# Altium schematic symbol library 691 313 510 0xx.SchLib: 23 symbols
Pins are listed as number, name and electrical type; pins without a type are passive.

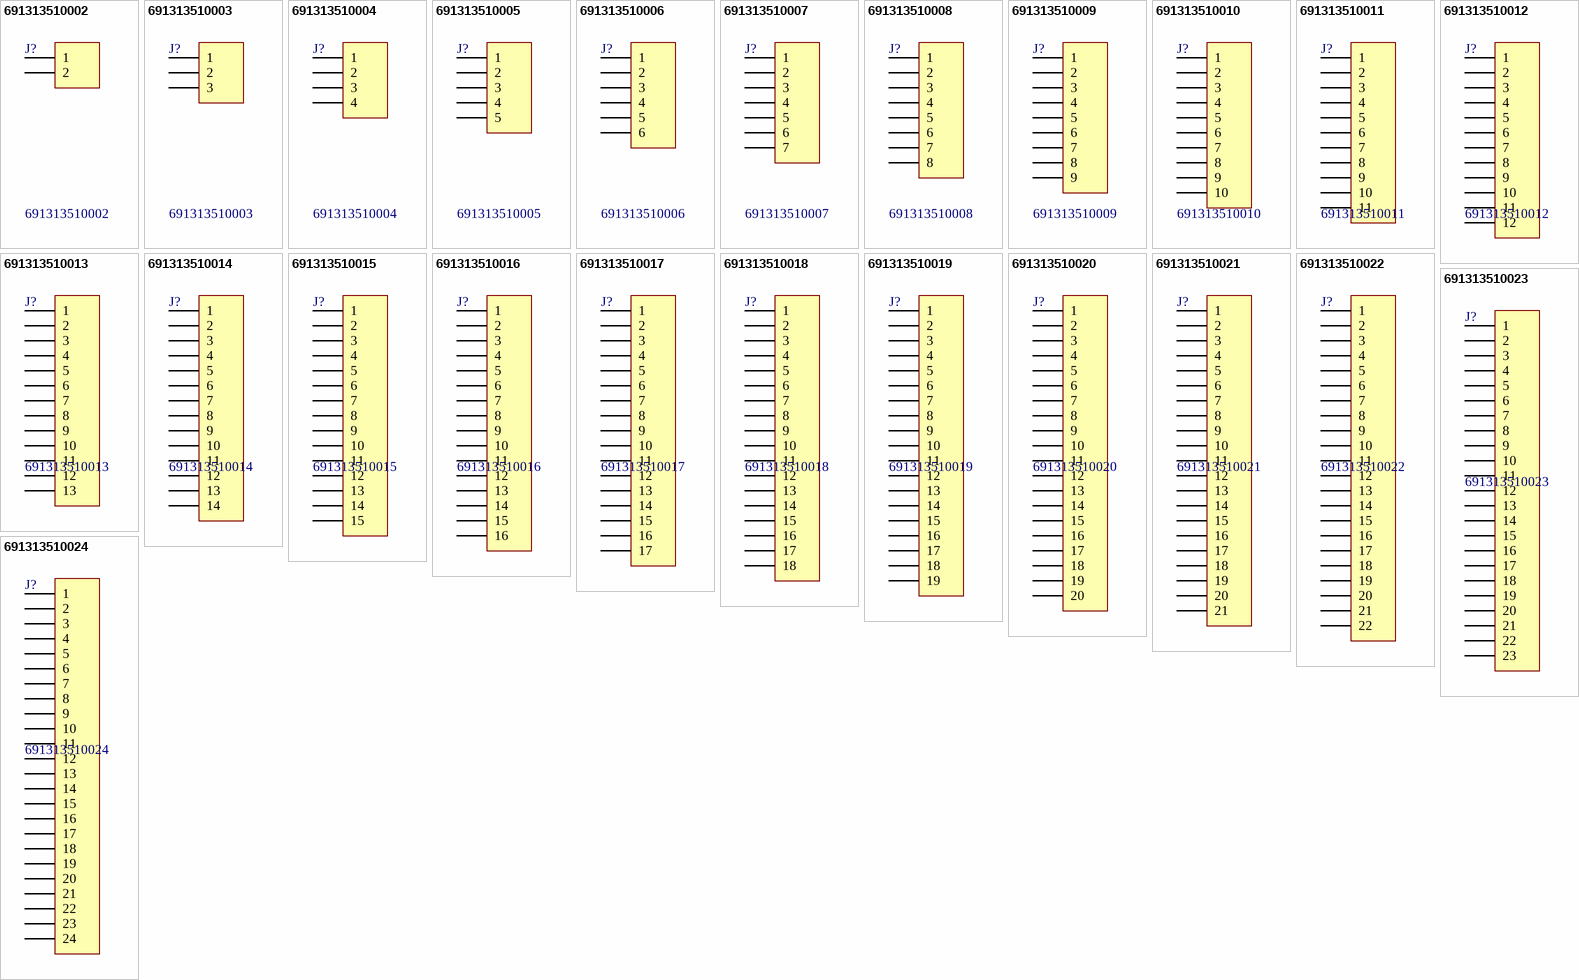
[diagram p0: symbols 691313510002 to 691313510024]

## 691313510002
designator J?
WR-TBL Terminal Blocks Serie 313 – 5.08 mm; Manufacturer: Würth Elektronik eiSos GmbH; ComponentLink1 Description: Manufacturer; ComponentLink2 Description: Datasheet; NoPins: 02; Created Date: 31 March 2014; partNo: 691313510002; ComponentLink1URL: http://www.we-online.com; ComponentLink2URL: http://katalog.we-online.de/em/datasheet/6913135100xx.pdf; Created by: Karrer Zheng; Value: 691313510002
footprint 691313510002 (5,08mm - PCB Headers - Horizontal - Closed ends - 02p)
pins: 1, 2

## 691313510003
designator J?
WR-TBL Terminal Blocks Serie 313 – 5.08 mm; Manufacturer: Würth Elektronik eiSos GmbH; ComponentLink1 Description: Manufacturer; ComponentLink2 Description: Datasheet; NoPins: 03; Created Date: 31 March 2014; partNo: 691313510003; ComponentLink1URL: http://www.we-online.com; ComponentLink2URL: http://katalog.we-online.de/em/datasheet/6913135100xx.pdf; Created by: Karrer Zheng; Value: 691313510003
footprint 691313510003 (5,08mm - PCB Headers - Horizontal - Closed ends - 03p)
pins: 1, 2, 3

## 691313510004
designator J?
WR-TBL Terminal Blocks Serie 313 – 5.08 mm; Manufacturer: Würth Elektronik eiSos GmbH; ComponentLink1 Description: Manufacturer; ComponentLink2 Description: Datasheet; NoPins: 04; Created Date: 31 March 2014; partNo: 691313510004; ComponentLink1URL: http://www.we-online.com; ComponentLink2URL: http://katalog.we-online.de/em/datasheet/6913135100xx.pdf; Created by: Karrer Zheng; Value: 691313510004
footprint 691313510004 (5,08mm - PCB Headers - Horizontal - Closed ends - 04p)
pins: 1, 2, 3, 4

## 691313510005
designator J?
WR-TBL Terminal Blocks Serie 313 – 5.08 mm; Manufacturer: Würth Elektronik eiSos GmbH; ComponentLink1 Description: Manufacturer; ComponentLink2 Description: Datasheet; NoPins: 05; Created Date: 31 March 2014; partNo: 691313510005; ComponentLink1URL: http://www.we-online.com; ComponentLink2URL: http://katalog.we-online.de/em/datasheet/6913135100xx.pdf; Created by: Karrer Zheng; Value: 691313510005
footprint 691313510005 (5,08mm - PCB Headers - Horizontal - Closed ends - 05p)
pins: 1, 2, 3, 4, 5

## 691313510006
designator J?
WR-TBL Terminal Blocks Serie 313 – 5.08 mm; Manufacturer: Würth Elektronik eiSos GmbH; ComponentLink1 Description: Manufacturer; ComponentLink2 Description: Datasheet; NoPins: 06; Created Date: 31 March 2014; partNo: 691313510006; ComponentLink1URL: http://www.we-online.com; ComponentLink2URL: http://katalog.we-online.de/em/datasheet/6913135100xx.pdf; Created by: Karrer Zheng; Value: 691313510006
footprint 691313510006 (5,08mm - PCB Headers - Horizontal - Closed ends - 06p)
pins: 1, 2, 3, 4, 5, 6

## 691313510007
designator J?
WR-TBL Terminal Blocks Serie 313 – 5.08 mm; Manufacturer: Würth Elektronik eiSos GmbH; ComponentLink1 Description: Manufacturer; ComponentLink2 Description: Datasheet; NoPins: 07; Created Date: 31 March 2014; partNo: 691313510007; ComponentLink1URL: http://www.we-online.com; ComponentLink2URL: http://katalog.we-online.de/em/datasheet/6913135100xx.pdf; Created by: Karrer Zheng; Value: 691313510007
footprint 691313510007 (5,08mm - PCB Headers - Horizontal - Closed ends - 07p)
pins: 1, 2, 3, 4, 5, 6, 7

## 691313510008
designator J?
WR-TBL Terminal Blocks Serie 313 – 5.08 mm; Manufacturer: Würth Elektronik eiSos GmbH; ComponentLink1 Description: Manufacturer; ComponentLink2 Description: Datasheet; NoPins: 08; Created Date: 31 March 2014; partNo: 691313510008; ComponentLink1URL: http://www.we-online.com; ComponentLink2URL: http://katalog.we-online.de/em/datasheet/6913135100xx.pdf; Created by: Karrer Zheng; Value: 691313510008
footprint 691313510008 (5,08mm - PCB Headers - Horizontal - Closed ends - 08p)
pins: 1, 2, 3, 4, 5, 6, 7, 8

## 691313510009
designator J?
WR-TBL Terminal Blocks Serie 313 – 5.08 mm; Manufacturer: Würth Elektronik eiSos GmbH; ComponentLink1 Description: Manufacturer; ComponentLink2 Description: Datasheet; NoPins: 09; Created Date: 31 March 2014; partNo: 691313510009; ComponentLink1URL: http://www.we-online.com; ComponentLink2URL: http://katalog.we-online.de/em/datasheet/6913135100xx.pdf; Created by: Karrer Zheng; Value: 691313510009
footprint 691313510009 (5,08mm - PCB Headers - Horizontal - Closed ends - 09p)
pins: 1, 2, 3, 4, 5, 6, 7, 8, 9

## 691313510010
designator J?
WR-TBL Terminal Blocks Serie 313 – 5.08 mm; Manufacturer: Würth Elektronik eiSos GmbH; ComponentLink1 Description: Manufacturer; ComponentLink2 Description: Datasheet; NoPins: 10; Created Date: 31 March 2014; partNo: 691313510010; ComponentLink1URL: http://www.we-online.com; ComponentLink2URL: http://katalog.we-online.de/em/datasheet/6913135100xx.pdf; Created by: Karrer Zheng; Value: 691313510010
footprint 691313510010 (5,08mm - PCB Headers - Horizontal - Closed ends - 10p)
pins: 1, 2, 3, 4, 5, 6, 7, 8, 9, 10

## 691313510011
designator J?
WR-TBL Terminal Blocks Serie 313 – 5.08 mm; Manufacturer: Würth Elektronik eiSos GmbH; ComponentLink1 Description: Manufacturer; ComponentLink2 Description: Datasheet; NoPins: 11; Created Date: 31 March 2014; partNo: 691313510011; ComponentLink1URL: http://www.we-online.com; ComponentLink2URL: http://katalog.we-online.de/em/datasheet/6913135100xx.pdf; Created by: Karrer Zheng; Value: 691313510011
footprint 691313510011 (5,08mm - PCB Headers - Horizontal - Closed ends - 11p)
pins: 1, 2, 3, 4, 5, 6, 7, 8, 9, 10, 11

## 691313510012
designator J?
WR-TBL Terminal Blocks Serie 313 – 5.08 mm; Manufacturer: Würth Elektronik eiSos GmbH; ComponentLink1 Description: Manufacturer; ComponentLink2 Description: Datasheet; NoPins: 12; Created Date: 31 March 2014; partNo: 691313510012; ComponentLink1URL: http://www.we-online.com; ComponentLink2URL: http://katalog.we-online.de/em/datasheet/6913135100xx.pdf; Created by: Karrer Zheng; Value: 691313510012
footprint 691313510012 (5,08mm - PCB Headers - Horizontal - Closed ends - 12p)
pins: 1, 2, 3, 4, 5, 6, 7, 8, 9, 10, 11, 12

## 691313510013
designator J?
WR-TBL Terminal Blocks Serie 313 – 5.08 mm; Manufacturer: Würth Elektronik eiSos GmbH; ComponentLink1 Description: Manufacturer; ComponentLink2 Description: Datasheet; NoPins: 13; Created Date: 31 March 2014; partNo: 691313510013; ComponentLink1URL: http://www.we-online.com; ComponentLink2URL: http://katalog.we-online.de/em/datasheet/6913135100xx.pdf; Created by: Karrer Zheng; Value: 691313510013
footprint 691313510013 (5,08mm - PCB Headers - Horizontal - Closed ends - 13p)
pins: 1, 2, 3, 4, 5, 6, 7, 8, 9, 10, 11, 12, 13

## 691313510014
designator J?
WR-TBL Terminal Blocks Serie 313 – 5.08 mm; Manufacturer: Würth Elektronik eiSos GmbH; ComponentLink1 Description: Manufacturer; ComponentLink2 Description: Datasheet; NoPins: 14; Created Date: 31 March 2014; partNo: 691313510014; ComponentLink1URL: http://www.we-online.com; ComponentLink2URL: http://katalog.we-online.de/em/datasheet/6913135100xx.pdf; Created by: Karrer Zheng; Value: 691313510014
footprint 691313510014 (5,08mm - PCB Headers - Horizontal - Closed ends - 14p)
pins: 1, 2, 3, 4, 5, 6, 7, 8, 9, 10, 11, 12, 13, 14

## 691313510015
designator J?
WR-TBL Terminal Blocks Serie 313 – 5.08 mm; Manufacturer: Würth Elektronik eiSos GmbH; ComponentLink1 Description: Manufacturer; ComponentLink2 Description: Datasheet; NoPins: 15; Created Date: 31 March 2014; partNo: 691313510015; ComponentLink1URL: http://www.we-online.com; ComponentLink2URL: http://katalog.we-online.de/em/datasheet/6913135100xx.pdf; Created by: Karrer Zheng; Value: 691313510015
footprint 691313510015 (5,08mm - PCB Headers - Horizontal - Closed ends - 15p)
pins: 1, 2, 3, 4, 5, 6, 7, 8, 9, 10, 11, 12, 13, 14, 15

## 691313510016
designator J?
WR-TBL Terminal Blocks Serie 313 – 5.08 mm; Manufacturer: Würth Elektronik eiSos GmbH; ComponentLink1 Description: Manufacturer; ComponentLink2 Description: Datasheet; NoPins: 16; Created Date: 31 March 2014; partNo: 691313510016; ComponentLink1URL: http://www.we-online.com; ComponentLink2URL: http://katalog.we-online.de/em/datasheet/6913135100xx.pdf; Created by: Karrer Zheng; Value: 691313510016
footprint 691313510016 (5,08mm - PCB Headers - Horizontal - Closed ends - 16p)
pins: 1, 2, 3, 4, 5, 6, 7, 8, 9, 10, 11, 12, 13, 14, 15, 16

## 691313510017
designator J?
WR-TBL Terminal Blocks Serie 313 – 5.08 mm; Manufacturer: Würth Elektronik eiSos GmbH; ComponentLink1 Description: Manufacturer; ComponentLink2 Description: Datasheet; NoPins: 17; Created Date: 31 March 2014; partNo: 691313510017; ComponentLink1URL: http://www.we-online.com; ComponentLink2URL: http://katalog.we-online.de/em/datasheet/6913135100xx.pdf; Created by: Karrer Zheng; Value: 691313510017
footprint 691313510017 (5,08mm - PCB Headers - Horizontal - Closed ends - 17p)
pins: 1, 2, 3, 4, 5, 6, 7, 8, 9, 10, 11, 12, 13, 14, 15, 16, 17

## 691313510018
designator J?
WR-TBL Terminal Blocks Serie 313 – 5.08 mm; Manufacturer: Würth Elektronik eiSos GmbH; ComponentLink1 Description: Manufacturer; ComponentLink2 Description: Datasheet; NoPins: 18; Created Date: 31 March 2014; partNo: 691313510018; ComponentLink1URL: http://www.we-online.com; ComponentLink2URL: http://katalog.we-online.de/em/datasheet/6913135100xx.pdf; Created by: Karrer Zheng; Value: 691313510018
footprint 691313510018 (5,08mm - PCB Headers - Horizontal - Closed ends - 18p)
pins: 1, 2, 3, 4, 5, 6, 7, 8, 9, 10, 11, 12, 13, 14, 15, 16, 17, 18

## 691313510019
designator J?
WR-TBL Terminal Blocks Serie 313 – 5.08 mm; Manufacturer: Würth Elektronik eiSos GmbH; ComponentLink1 Description: Manufacturer; ComponentLink2 Description: Datasheet; NoPins: 19; Created Date: 31 March 2014; partNo: 691313510019; ComponentLink1URL: http://www.we-online.com; ComponentLink2URL: http://katalog.we-online.de/em/datasheet/6913135100xx.pdf; Created by: Karrer Zheng; Value: 691313510019
footprint 691313510019 (5,08mm - PCB Headers - Horizontal - Closed ends - 19p)
pins: 1, 2, 3, 4, 5, 6, 7, 8, 9, 10, 11, 12, 13, 14, 15, 16, 17, 18, 19

## 691313510020
designator J?
WR-TBL Terminal Blocks Serie 313 – 5.08 mm; Manufacturer: Würth Elektronik eiSos GmbH; ComponentLink1 Description: Manufacturer; ComponentLink2 Description: Datasheet; NoPins: 20; Created Date: 31 March 2014; partNo: 691313510020; ComponentLink1URL: http://www.we-online.com; ComponentLink2URL: http://katalog.we-online.de/em/datasheet/6913135100xx.pdf; Created by: Karrer Zheng; Value: 691313510020
footprint 691313510020 (5,08mm - PCB Headers - Horizontal - Closed ends - 20p)
pins: 1, 2, 3, 4, 5, 6, 7, 8, 9, 10, 11, 12, 13, 14, 15, 16, 17, 18, 19, 20

## 691313510021
designator J?
WR-TBL Terminal Blocks Serie 313 – 5.08 mm; Manufacturer: Würth Elektronik eiSos GmbH; ComponentLink1 Description: Manufacturer; ComponentLink2 Description: Datasheet; NoPins: 21; Created Date: 31 March 2014; partNo: 691313510021; ComponentLink1URL: http://www.we-online.com; ComponentLink2URL: http://katalog.we-online.de/em/datasheet/6913135100xx.pdf; Created by: Karrer Zheng; Value: 691313510021
footprint 691313510021 (5,08mm - PCB Headers - Horizontal - Closed ends - 21p)
pins: 1, 2, 3, 4, 5, 6, 7, 8, 9, 10, 11, 12, 13, 14, 15, 16, 17, 18, 19, 20, 21

## 691313510022
designator J?
WR-TBL Terminal Blocks Serie 313 – 5.08 mm; Manufacturer: Würth Elektronik eiSos GmbH; ComponentLink1 Description: Manufacturer; ComponentLink2 Description: Datasheet; NoPins: 22; Created Date: 31 March 2014; partNo: 691313510022; ComponentLink1URL: http://www.we-online.com; ComponentLink2URL: http://katalog.we-online.de/em/datasheet/6913135100xx.pdf; Created by: Karrer Zheng; Value: 691313510022
footprint 691313510022 (5,08mm - PCB Headers - Horizontal - Closed ends - 22p)
pins: 1, 2, 3, 4, 5, 6, 7, 8, 9, 10, 11, 12, 13, 14, 15, 16, 17, 18, 19, 20, 21, 22

## 691313510023
designator J?
WR-TBL Terminal Blocks Serie 313 – 5.08 mm; Manufacturer: Würth Elektronik eiSos GmbH; ComponentLink1 Description: Manufacturer; ComponentLink2 Description: Datasheet; NoPins: 23; Created Date: 31 March 2014; partNo: 691313510023; ComponentLink1URL: http://www.we-online.com; ComponentLink2URL: http://katalog.we-online.de/em/datasheet/6913135100xx.pdf; Created by: Karrer Zheng; Value: 691313510023
footprint 691313510023 (5,08mm - PCB Headers - Horizontal - Closed ends -23p)
pins: 1, 2, 3, 4, 5, 6, 7, 8, 9, 10, 11, 12, 13, 14, 15, 16, 17, 18, 19, 20, 21, 22, 23

## 691313510024
designator J?
WR-TBL Terminal Blocks Serie 313 – 5.08 mm; Manufacturer: Würth Elektronik eiSos GmbH; ComponentLink1 Description: Manufacturer; ComponentLink2 Description: Datasheet; NoPins: 24; Created Date: 31 March 2014; partNo: 691313510024; ComponentLink1URL: http://www.we-online.com; ComponentLink2URL: http://katalog.we-online.de/em/datasheet/6913135100xx.pdf; Created by: Karrer Zheng; Value: 691313510024
footprint 691313510024 (5,08mm - PCB Headers - Horizontal - Closed ends - 24p)
pins: 1, 2, 3, 4, 5, 6, 7, 8, 9, 10, 11, 12, 13, 14, 15, 16, 17, 18, 19, 20, 21, 22, 23, 24